# Altium schematic symbol library Micro Crystal AG.SchLib: 1 symbol
Pins are listed as number, name and electrical type; pins without a type are passive.

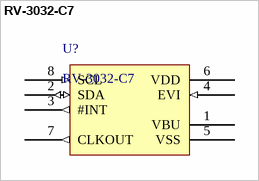
[diagram p0: symbol RV-3032-C7]

## RV-3032-C7
designator U?
pins: 1 VBU (power), 2 SDA (io), 3 #INT (out), 4 EVI (in), 5 VSS (power), 6 VDD (power), 7 CLKOUT (out), 8 SCL (in)